# EAGLE library part ETHER (library Ether)
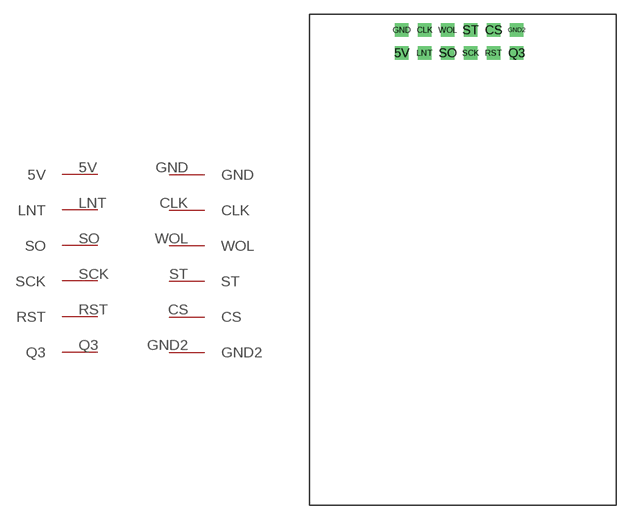
[diagram p0: symbol with the pads of ETHER; footprint ETHER]

Designator prefix -

## ETHER  [ETHER]
5V  5V
CLK  CLK
CS  CS
GND  GND
GND2  GND2
LNT  LNT
Q3  Q3
RST  RST
SCK  SCK
SO  SO
ST  ST
WOL  WOL

## Footprint ETHER (pad centres in mm)
drill 0.9 square: 5V 9.525,-3.969; CLK 11.906,-1.587; CS 19.05,-1.587; GND 9.525,-1.587; GND2 21.431,-1.587; LNT 11.906,-3.969; Q3 21.431,-3.969; RST 19.05,-3.969; SCK 16.669,-3.969; SO 14.287,-3.969; ST 16.669,-1.587; WOL 14.287,-1.587